# Altium footprint library REB215_XPRO_Extension_Board.PcbLib: 56 footprints (part 1 of 4)
Each footprint in its own frame and in the unit in brackets; x right, y up, seen from the top. Pads: shape width x height; smd on the part's side, far side on the other; paste and mask are expansions set on the pad; w line width, h text height; cw(c..) or ccw(c..) is an arc to the next point about the centre after c.
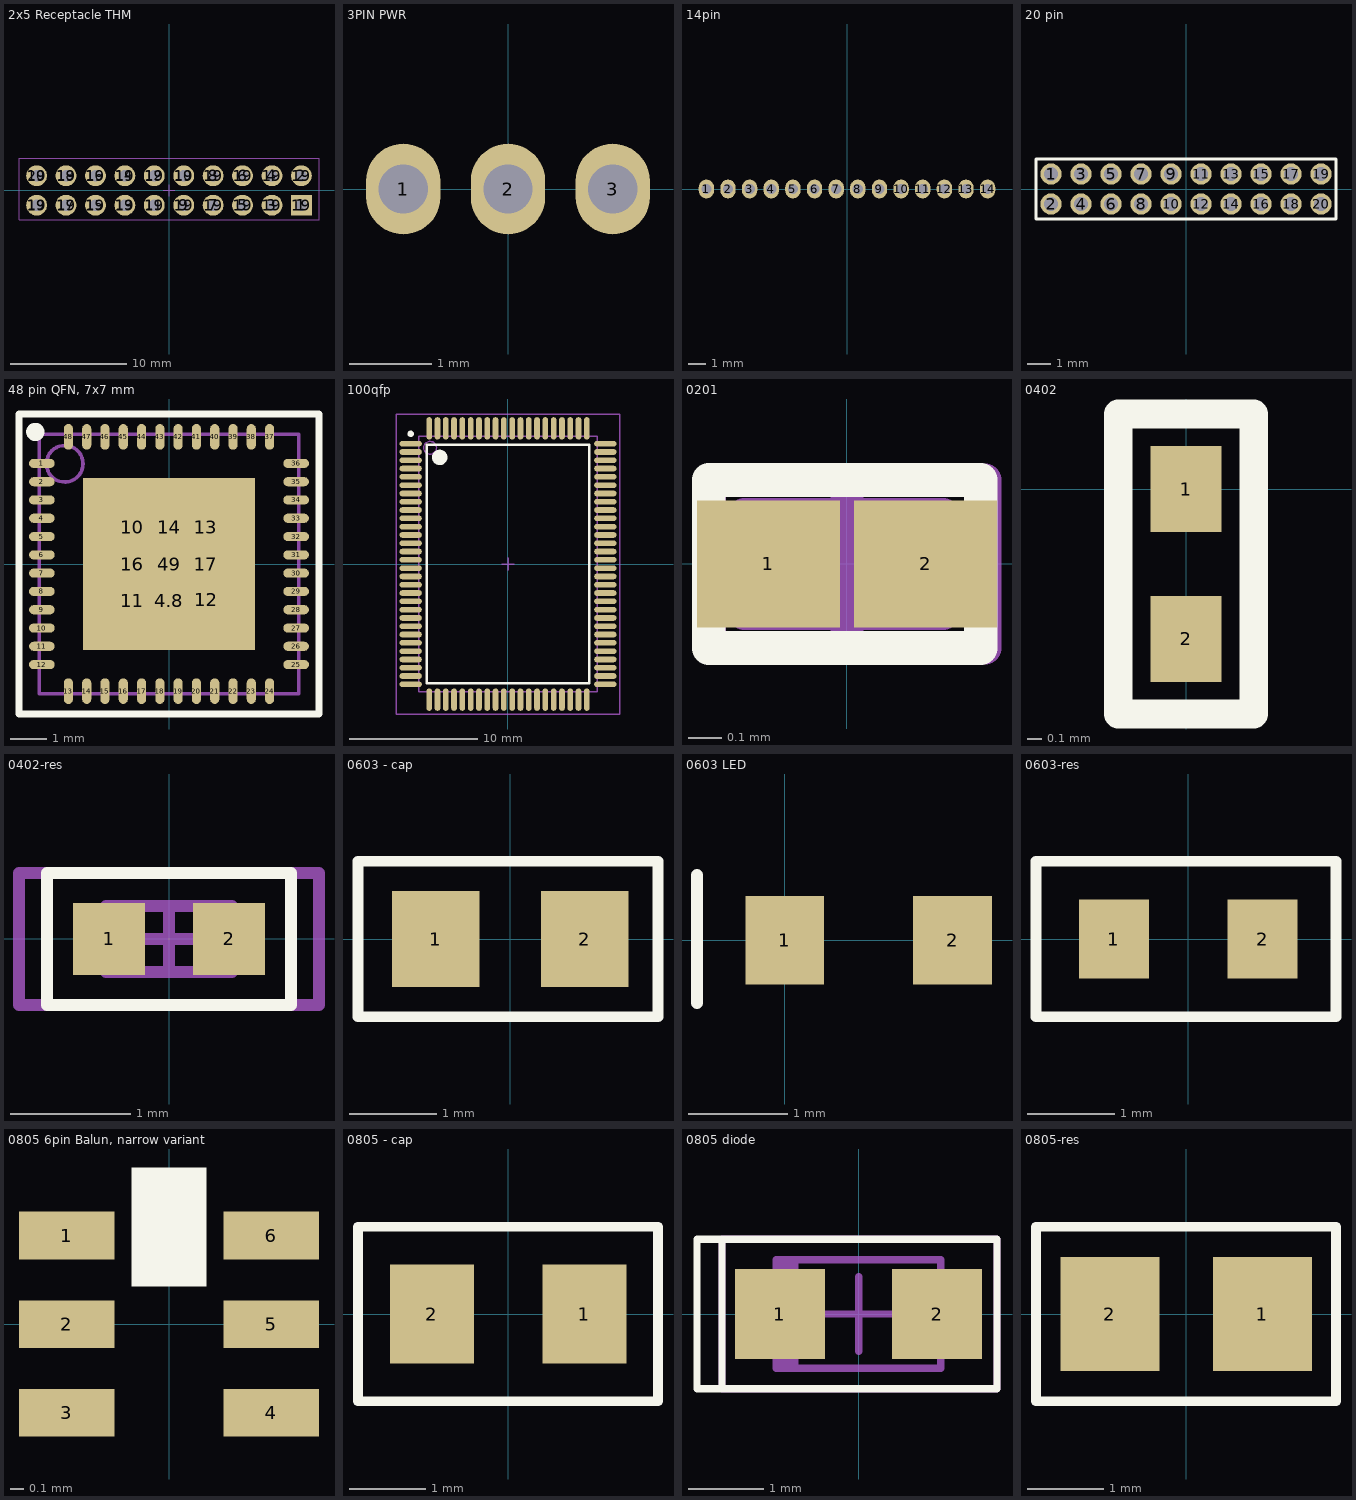
[diagram p0: the footprints below, top view; thin cyan lines are the x and y axes]

## 2x5 Receptacle THM [mm] "2x5 Receptacle THM, Right Angle. No Guide. 2.54mm pitch. Length 13.2mm, width 5.0mm, height 5mm"
height 5
pads (40):
  rect 1.8x1.8 hole 1: 1(11.43,-1.27)
  round 1.8 hole 1: 2(11.43,1.27) 3(8.89,-1.27) 4(8.89,1.27) 5(6.35,-1.27) 6(6.35,1.27) 7(3.81,-1.27) 8(3.81,1.27) 9(1.27,-1.27) 10(1.27,1.27) 11(-1.27,-1.27) 12(-1.27,1.27) 13(-3.81,-1.27) 14(-3.81,1.27) 15(-6.35,-1.27) 16(-6.35,1.27) 17(-8.89,-1.27) 18(-8.89,1.27) 19(-11.43,-1.27) 20(-11.43,1.27)
  rect 2.1x2.1 on Top Paste: 19(-11.43,-1.27) 19(-11.43,1.27) 19(-8.89,-1.27) 19(-8.89,1.27) 19(-6.35,-1.27) 19(-6.35,1.27) 19(-3.81,-1.27) 19(-3.81,1.27) 19(-1.27,-1.27) 19(-1.27,1.27) 19(1.27,-1.27) 19(1.27,1.27) 19(3.81,-1.27) 19(3.81,1.27) 19(6.35,-1.27) 19(6.35,1.27) 19(8.89,-1.27) 19(8.89,1.27) 19(11.43,-1.27) 19(11.43,1.27)
Mechanical 15:
  lines w0.1: -0.5,0 0.5,0 ; 0,-0.492 0,0.508 ; -12.954,-2.54 -12.954,2.794 6.191,2.794 12.954,2.794 12.954,2.54 12.954,-2.54 -12.954,-2.54

## 3PIN PWR [mm]
pads (3):
  oval 0.9x1.1 hole 0.6: 1(-1.27,0) 2(0,0) 3(1.27,0)

## 14pin [mm]
pads (14):
  oval 0.9x1.1 hole 0.6: 1(-8.255,0) 2(-6.985,0) 3(-5.715,0) 4(-4.445,0) 5(-3.175,0) 6(-1.905,0) 7(-0.635,0) 8(0.635,0) 9(1.905,0) 10(3.175,0) 11(4.445,0) 12(5.715,0) 13(6.985,0) 14(8.255,0)

## 20 pin [mm]
pads (20):
  round 0.9 hole 0.6: 1(-5.715,0.635) 2(-5.715,-0.635) 3(-4.445,0.635) 4(-4.445,-0.635) 5(-3.175,0.635) 6(-3.175,-0.635) 7(-1.905,0.635) 8(-1.905,-0.635) 9(-0.635,0.635) 10(-0.635,-0.635) 11(0.635,0.635) 12(0.635,-0.635) 13(1.905,0.635) 14(1.905,-0.635) 15(3.175,0.635) 16(3.175,-0.635) 17(4.445,0.635) 18(4.445,-0.635) 19(5.715,0.635) 20(5.715,-0.635)
Top Overlay:
  lines w0.127: -6.35,-1.27 6.35,-1.27 6.35,1.27 -6.35,1.27 -6.35,-1.27

## 48 pin QFN, 7x7 mm [mm] "48 pin QFN, 7x7 mm"
height 0.9
pads (57):
  oval 0.7x0.25 smd: 1(-3.475,2.75) 2(-3.475,2.25) 3(-3.475,1.75) 4(-3.475,1.25) 5(-3.475,0.75) 6(-3.475,0.25) 7(-3.475,-0.25) 8(-3.475,-0.75) 9(-3.475,-1.25) 10(-3.475,-1.75) 11(-3.475,-2.25) 12(-3.475,-2.75) 25(3.475,-2.75) 26(3.475,-2.25) 27(3.475,-1.75) 28(3.475,-1.25) 29(3.475,-0.75) 30(3.475,-0.25) 31(3.475,0.25) 32(3.475,0.75) 33(3.475,1.25) 34(3.475,1.75) 35(3.475,2.25) 36(3.475,2.75)
  rect 4.7x1.4 on Top Solder: 4.8(0,-1) 14(0,1)
  rrect50% 1.65x1.65 on Top Paste: 10(-1,1) 11(-1,-1) 12(1.025,-0.975) 13(1,1)
  oval 0.25x0.7 smd: 13(-2.75,-3.475) 14(-2.25,-3.475) 15(-1.75,-3.475) 16(-1.25,-3.475) 17(-0.75,-3.475) 18(-0.25,-3.475) 19(0.25,-3.475) 20(0.75,-3.475) 21(1.25,-3.475) 22(1.75,-3.475) 23(2.25,-3.475) 24(2.75,-3.475) 37(2.75,3.475) 38(2.25,3.475) 39(1.75,3.475) 40(1.25,3.475) 41(0.75,3.475) 42(0.25,3.475) 43(-0.25,3.475) 44(-0.75,3.475) 45(-1.25,3.475) 46(-1.75,3.475) 47(-2.25,3.475) 48(-2.75,3.475)
  rect 1.4x4.7 on Top Solder: 16(-1,0) 17(1,0)
  rect 4.7x4.7 smd paste-5.2 mask-5.2: 49(0,0)
Top Overlay:
  circle w0.25: c-3.655,3.61 r0.125
  lines w0.2: -4.1,-4.1 -4.1,4.1 4.1,4.1 4.1,-4.1 -4.1,-4.1
Mechanical 13:
  circle w0.1: c-2.85,2.74 r0.5
  lines w0.1: -3.55,-3.55 3.55,-3.55 3.55,3.55 -3.55,3.55 -3.55,-3.55
Mechanical 15:
  lines w0.1: -0.5,0 0.5,0 ; 0,-0.5 0,0.5 ; -4.1,-4.1 4.1,-4.1 4.1,4.1 -4.1,4.1 -4.1,-4.1
3D body "qfn 48-pin.STEP": height 0.84, standoff -0.01, extent -3.5,-3.5 3.5,3.5
3D body: height 0.9, standoff 0.01, extent -3.49,-3.49 3.49,3.49
3D body: height 0.91, standoff 0.8, extent -1.25,1.15 1.25,2.55

## 100qfp [mm] "100-Pin Thin Plastic Quad Flat Pack Rectangular 0.65 mm Pitch, IPC Medium Density"
height 1.6
pads (100):
  oval 1.75x0.45 smd: 1(-7.625,9.425) 2(-7.625,8.775) 3(-7.625,8.125) 4(-7.625,7.475) 5(-7.625,6.825) 6(-7.625,6.175) 7(-7.625,5.525) 8(-7.625,4.875) 9(-7.625,4.225) 10(-7.625,3.575) 11(-7.625,2.925) 12(-7.625,2.275) 13(-7.625,1.625) 14(-7.625,0.975) 15(-7.625,0.325) 16(-7.625,-0.325) 17(-7.625,-0.975) 18(-7.625,-1.625) 19(-7.625,-2.275) 20(-7.625,-2.925) 21(-7.625,-3.575) 22(-7.625,-4.225) 23(-7.625,-4.875) 24(-7.625,-5.525) 25(-7.625,-6.175) 26(-7.625,-6.825) 27(-7.625,-7.475) 28(-7.625,-8.125) 29(-7.625,-8.775) 30(-7.625,-9.425) 51(7.625,-9.425) 52(7.625,-8.775) 53(7.625,-8.125) 54(7.625,-7.475) 55(7.625,-6.825) 56(7.625,-6.175) 57(7.625,-5.525) 58(7.625,-4.875) 59(7.625,-4.225) 60(7.625,-3.575) 61(7.625,-2.925) 62(7.625,-2.275) 63(7.625,-1.625) 64(7.625,-0.975) 65(7.625,-0.325) 66(7.625,0.325) 67(7.625,0.975) 68(7.625,1.625) 69(7.625,2.275) 70(7.625,2.925) 71(7.625,3.575) 72(7.625,4.225) 73(7.625,4.875) 74(7.625,5.525) 75(7.625,6.175) 76(7.625,6.825) 77(7.625,7.475) 78(7.625,8.125) 79(7.625,8.775) 80(7.625,9.425)
  oval 0.45x1.75 smd: 31(-6.175,-10.625) 32(-5.525,-10.625) 33(-4.875,-10.625) 34(-4.225,-10.625) 35(-3.575,-10.625) 36(-2.925,-10.625) 37(-2.275,-10.625) 38(-1.625,-10.625) 39(-0.975,-10.625) 40(-0.325,-10.625) 41(0.325,-10.625) 42(0.975,-10.625) 43(1.625,-10.625) 44(2.275,-10.625) 45(2.925,-10.625) 46(3.575,-10.625) 47(4.225,-10.625) 48(4.875,-10.625) 49(5.525,-10.625) 50(6.175,-10.625) 81(6.175,10.625) 82(5.525,10.625) 83(4.875,10.625) 84(4.225,10.625) 85(3.575,10.625) 86(2.925,10.625) 87(2.275,10.625) 88(1.625,10.625) 89(0.975,10.625) 90(0.325,10.625) 91(-0.325,10.625) 92(-0.975,10.625) 93(-1.625,10.625) 94(-2.275,10.625) 95(-2.925,10.625) 96(-3.575,10.625) 97(-4.225,10.625) 98(-4.875,10.625) 99(-5.525,10.625) 100(-6.175,10.625)
Top Overlay:
  circle w0.25: c-7.625,10.2 r0.125
  circle w0.6: c-5.35,8.35 r0.3
  lines w0.2: -6.35,-9.35 -6.35,9.35 6.35,9.35 6.35,-9.35 -6.35,-9.35
Mechanical 13:
  circle w0.1: c-6.1,9.1 r0.5
  lines w0.1: -7,-10 -7,10 7,10 7,-10 -7,-10
Mechanical 15:
  lines w0.1: -0.5,0 0.5,0 ; 0,-0.5 0,0.5 ; -8.75,-11.75 -8.75,11.75 8.75,11.75 8.75,-11.75 -8.75,-11.75
3D body: height 1.6, standoff 0, extent -7,-10 7,10

## 0201 [mil] "0201_SMD"
height 21.65
pads (2):
  rect 17x15.09 smd paste+0 mask+2.49: 1(-9.35,0) 2(9.35,0)
Top Overlay:
  lines w4: -16.46,-10 -16.46,10 15.91,10 15.91,-10 -16.46,-10
Mechanical 13:
  lines w3.94: -12.2,-5.9 -12.2,5.91 11.42,5.91 11.42,-5.9 -12.2,-5.9
Mechanical 15:
  lines w3.94: -7.87,0 7.87,0 ; 0,-7.87 0,7.87 ; -16.34,-10 -16.34,10 16.42,10 16.42,-10 -16.34,-10
3D body "User Library-cap_0201.STEP": height 11.81, standoff 0, extent -11.8,-5.9 11.82,5.91

## 0402 [mm] "Generic pad 0402, spacing 0.45mm"
height 0.4
pads (2):
  rect 0.5x0.6 smd: 1(0,0) 2(0,-1.05)
Top Overlay:
  lines w0.2: -0.475,-1.575 0.475,-1.575 0.475,0.525 -0.475,0.525 -0.475,-1.575
3D body "User Library-0402 SMD Capacitor.step": height 0.2, standoff 0, extent -0.3,-1.025 0.3,-0.025

## 0402-res [mm] "Standard 0402 SMD capacitor footprint"
height 0.55
pads (2):
  rect 0.6x0.6 smd: 1(-0.5,0) 2(0.5,0)
Top Overlay:
  lines w0.1: -1.016,-0.55 1.016,-0.55 1.016,0.55 -1.016,0.55 -1.016,-0.55
Mechanical 13:
  lines w0.1: -0.525,-0.275 0.525,-0.275 0.525,0.275 -0.525,0.275 -0.525,-0.275
Mechanical 15:
  lines w0.1: -0.275,0 0.275,0 ; 0,-0.275 0,0.275 ; -1.25,-0.55 1.25,-0.55 1.25,0.55 -1.25,0.55 -1.25,-0.55
3D body "0402 SMD Capacitor.step": height 0.2, standoff 0, extent -0.5,-0.3 0.5,0.3

## 0603 - cap [mm] "CAPC0603M"
pads (2):
  rect 1x1.1 smd mask+0.051: 1(-0.85,0) 2(0.85,0)
Top Overlay:
  lines w0.125: -1.739,-0.889 1.69,-0.889 1.69,0.889 -1.739,0.889 -1.739,-0.889
3D body "CAP0603.stp": height 0.3, standoff 0, extent -0.8,-0.4 0.8,0.4

## 0603 LED [mm] "0603"
pads (2):
  rect 0.8x0.9 smd mask+0.051: 1(0,0) 2(1.7,0)
Top Overlay:
  lines w0.125: -0.889,-0.635 -0.889,0.66
3D body "LED 0603 single color.stp": height 0.7, standoff -0.01, extent 0.025,-0.394 1.625,0.394

## 0603-res [mm] "CAPC0603M"
pads (2):
  rect 0.8x0.9 smd mask+0.051: 1(-0.85,0) 2(0.85,0)
Top Overlay:
  lines w0.125: -1.739,-0.889 1.69,-0.889 1.69,0.889 -1.739,0.889 -1.739,-0.889
3D body "RES0603.stp": height 0.45, standoff 0, extent -0.8,-0.4 0.8,0.4

## 0805 6pin Balun, narrow variant [mm] "0805 6pin Balun, narrow variant"
height 0.8
pads (6):
  rect 0.7x0.35 smd: 1(-0.75,0.65) 2(-0.75,0) 3(-0.75,-0.65) 4(0.75,-0.65) 5(0.75,0) 6(0.75,0.65)
Top Overlay:
  rectangle: -0.275,0.275 0.275,1.15
3D body: height 0.8, standoff 0.05, extent -0.625,-0.95 0.575,1
3D body: height 0.85, standoff 0.5, extent -0.15,0.4 0.1,0.9
3D body: height 0.85, standoff 0, extent -0.65,0.475 -0.4,0.825
3D body: height 0.85, standoff 0, extent -0.65,-0.175 -0.4,0.175
3D body: height 0.85, standoff 0, extent -0.65,-0.825 -0.4,-0.475
3D body: height 0.85, standoff 0, extent 0.4,0.475 0.6,0.825
3D body: height 0.85, standoff 0, extent 0.4,-0.175 0.6,0.175
3D body: height 0.85, standoff 0, extent 0.4,-0.825 0.6,-0.475

## 0805 - cap [mm] "CAPC2012N"
pads (2):
  rect 1.1x1.3 smd: 1(1,0) 2(-1,0)
Top Overlay:
  lines w0.127: -1.971,-1.143 -1.971,1.143 1.966,1.143 1.966,-1.143 -1.971,-1.143
Mechanical 32:
  text "2" at -1.15,-0.104 h0.2
  text "1" at 0.85,-0.104 h0.2
3D body "CAP0805.stp": height 0.78, standoff 0, extent -1,-0.625 1,0.625

## 0805 diode [mm] "0805 diode footprint"
height 1.1
pads (2):
  rect 1.2x1.2 smd: 1(-1.05,0) 2(1.05,0)
Top Overlay:
  lines w0.1: -1.762,1 -2.159,1 -2.159,-1 -1.794,-1 ; -1.794,-1 1.85,-1 1.85,1 -1.825,1 -1.825,-0.969 -1.794,-1
Mechanical 13:
  rectangle: -1.099,-0.725 -0.803,0.725
  lines w0.1: -1.1,-0.725 1.1,-0.725 1.1,0.725 -1.1,0.725 -1.1,-0.725
Mechanical 15:
  lines w0.1: -0.5,0 0.5,0 ; 0,-0.5 0,0.5 ; -1.825,-1 1.85,-1 1.85,1 -1.825,1 -1.825,-1
3D body: height 0.65, standoff 0.6, extent -0.425,-0.05 -0.325,0.05
3D body: height 0.61, standoff 0.6, extent -0.675,0.45 -0.525,0.6
3D body: height 0.61, standoff 0.6, extent -0.675,-0.6 -0.525,-0.45
3D body: height 0.61, standoff 0.6, extent -0.7,-0.1 0.7,0.1
3D body: height 0.61, standoff 0, extent 0.85,-0.625 1,0.625
3D body: height 0.61, standoff 0, extent -1,-0.625 -0.85,0.625
3D body: height 1.1, standoff 0.6, extent -0.7,-0.625 0.7,0.625
3D body: height 0.6, standoff 0, extent -0.85,-0.625 0.85,0.625

## 0805-res [mm] "CAPC2012N"
pads (2):
  rect 1.3x1.5 smd: 1(1,0) 2(-1,0)
Top Overlay:
  lines w0.127: -1.971,-1.143 -1.971,1.143 1.966,1.143 1.966,-1.143 -1.971,-1.143
Mechanical 32:
  text "2" at -1.15,-0.104 h0.2
  text "1" at 0.85,-0.104 h0.2
3D body "RES0805.stp": height 0.5, standoff 0, extent -1,-0.63 1,0.62